# Altium schematic symbol library STM32F4DISCOHEAD.SchLib: 1 symbol
Pins are listed as number, name and electrical type; pins without a type are passive.

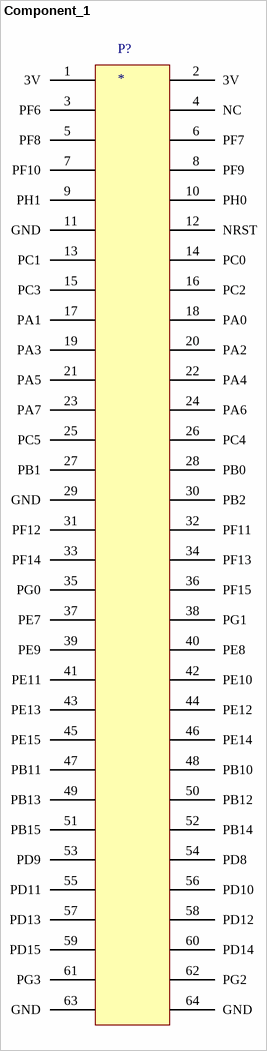
[diagram p0: symbol Component_1]

## Component_1
designator P?
Header for STM32F429 pinout
footprint STM32F4DiscoHeader
pins: 1 3V (power), 2 3V (power), 3 PF6, 4 NC, 5 PF8, 6 PF7, 7 PF10, 8 PF9, 9 PH1, 10 PH0, 11 GND (power), 12 NRST, 13 PC1, 14 PC0, 15 PC3, 16 PC2, 17 PA1, 18 PA0, 19 PA3, 20 PA2, 21 PA5, 22 PA4, 23 PA7, 24 PA6, 25 PC5, 26 PC4, 27 PB1, 28 PB0, 29 GND (power), 30 PB2, 31 PF12, 32 PF11, 33 PF14, 34 PF13, 35 PG0, 36 PF15, 37 PE7, 38 PG1, 39 PE9, 40 PE8, 41 PE11, 42 PE10, 43 PE13, 44 PE12, 45 PE15, 46 PE14, 47 PB11, 48 PB10, 49 PB13, 50 PB12, 51 PB15, 52 PB14, 53 PD9, 54 PD8, 55 PD11, 56 PD10, 57 PD13, 58 PD12, 59 PD15, 60 PD14, 61 PG3, 62 PG2, 63 GND (power), 64 GND (power)